# Altium schematic symbol library WRobot.SchLib: 2 symbols
Pins are listed as number, name and electrical type; pins without a type are passive.

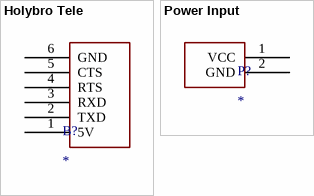
[diagram p0: symbols Holybro Tele to Power Input]

## Holybro Tele
designator B?
footprint HOLYBRO_TELE (JP6)
pins: 1 5V, 2 TXD, 3 RXD, 4 RTS, 5 CTS, 6 GND

## Power Input
designator P?
footprint POWER_INPUT
pins: 1 VCC, 2 GND